# Altium footprint library Custom_Footprints.PcbLib: 7 footprints
Each footprint in its own frame and in the unit in brackets; x right, y up, seen from the top. Pads: shape width x height; smd on the part's side, far side on the other; paste and mask are expansions set on the pad; w line width, h text height; cw(c..) or ccw(c..) is an arc to the next point about the centre after c.
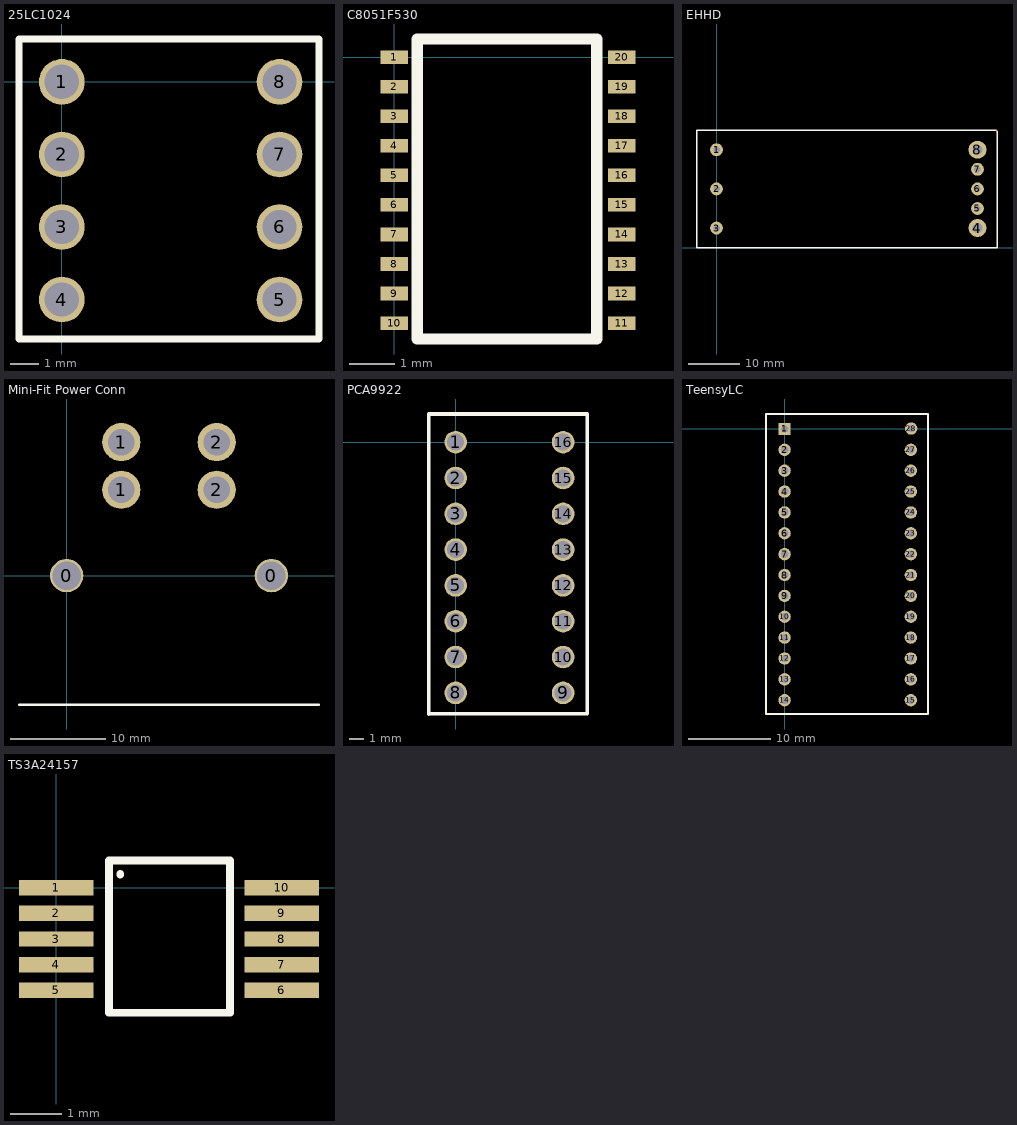
[diagram p0: the footprints below, top view; thin cyan lines are the x and y axes]

## 25LC1024 [mm] "EEPROM"
pads (8):
  round 1.6 hole 1.2: 1(0,0) 2(0,-2.54) 3(0,-5.08) 4(0,-7.62) 5(7.62,-7.62) 6(7.62,-5.08) 7(7.62,-2.54) 8(7.62,0)
Top Overlay:
  lines w0.25: -1.5,-9 9,-9 9,1.5 -1,1.5 -1.5,1.5 -1.5,-9

## C8051F530 [mm] "ISP Flash MCU"
pads (20):
  rect 0.6x0.3 smd: 1(0,0) 2(0,-0.65) 3(0,-1.3) 4(0,-1.95) 5(0,-2.6) 6(0,-3.25) 7(0,-3.9) 8(0,-4.55) 9(0,-5.2) 10(0,-5.85) 11(5,-5.85) 12(5,-5.2) 13(5,-4.55) 14(5,-3.9) 15(5,-3.25) 16(5,-2.6) 17(5,-1.95) 18(5,-1.3) 19(5,-0.65) 20(5,0)
Top Overlay:
  lines w0.25: 0.5,-6.2 4.45,-6.2 4.45,0.4 0.5,0.4 0.5,-6.2

## EHHD [mm] "DC/DC"
height 12.7
pads (8):
  round 2.5 hole 1.27: 1(0,19.04) 2(0,11.42) 3(0,3.8) 5(50.8,7.61) 6(50.8,11.42) 7(50.8,15.23)
  round 3.5 hole 1.93: 4(50.8,3.8) 8(50.8,19.04)
Top Layer:
  lines w0.254: 54.44,22.8 54.6,22.64
Top Overlay:
  lines w0.254: 54.44,22.8 -3.8,22.8 -3.8,0 54.6,0 54.6,22.64

## Mini-Fit Power Conn [mm] "Molex Mini-Fit Power Connector"
pads (6):
  round 3.5 hole 3: 0(0,0) 0(21.46,0)
  round 4 hole 2.8: 1(5.73,9) 1(5.73,14) 2(15.73,9) 2(15.73,14)
Top Overlay:
  lines w0.254: -5,-13.56 26.46,-13.56

## PCA9922 [mm] "LED Driver"
height 4.2
pads (16):
  round 1.6 hole 1.2: 1(0,0) 2(0,-2.54) 3(0,-5.08) 4(0,-7.62) 5(0,-10.16) 6(0,-12.7) 7(0,-15.24) 8(0,-17.78) 9(7.62,-17.78) 10(7.62,-15.24) 11(7.62,-12.7) 12(7.62,-10.16) 13(7.62,-7.62) 14(7.62,-5.08) 15(7.62,-2.54) 16(7.62,0)
Top Overlay:
  lines w0.25: -1.91,-19.28 -1.91,2 9.33,2 9.33,-19.27 -1.9,-19.27 -1.91,-19.28

## TeensyLC [mm] "Teensy LC Footprint"
pads (28):
  rect 1.45x1.45 hole 0.9: 1(0,0)
  round 1.5 hole 0.9: 2(0,-2.54) 3(0,-5.08) 4(0,-7.62) 5(0,-10.16) 6(0,-12.7) 7(0,-15.24) 8(0,-17.78) 9(0,-20.32) 10(0,-22.86) 11(0,-25.4) 12(0,-27.94) 13(0,-30.48) 14(0,-33.02) 15(15.367,-33.02) 16(15.367,-30.48) 17(15.367,-27.94) 18(15.367,-25.4) 19(15.367,-22.86) 20(15.367,-20.32) 21(15.367,-17.78) 22(15.367,-15.24) 23(15.367,-12.7) 24(15.367,-10.16) 25(15.367,-7.62) 26(15.367,-5.08) 27(15.367,-2.54) 28(15.41,0.05)
Top Overlay:
  lines w0.25: -2.24,1.82 -2.24,-34.7 17.43,-34.7 17.43,1.81 -2.21,1.81

## TS3A24157 [mm] "TS3A24157 Mux/Demux SMD"
pads (10):
  rect 1.45x0.3 smd: 1(0,0) 2(0,-0.5) 3(0,-1) 4(0,-1.5) 5(0,-2) 6(4.4,-2) 7(4.4,-1.5) 8(4.4,-1) 9(4.4,-0.5) 10(4.4,0)
Top Overlay:
  lines w0.15: 1.25,0.25 1.25,0.27 ; 1.03,-2.44 1.03,0.53 3.39,0.53 3.39,-2.44 1.03,-2.44